# Altium schematic symbol library RGA101M1HBK-0811G.SchLib: 1 symbol
Pins are listed as number, name and electrical type; pins without a type are passive.

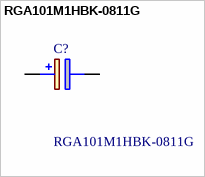
[diagram p0: symbol RGA101M1HBK-0811G]

## RGA101M1HBK-0811G
designator C?
Aluminum Electrolytic Capacitors - Radial Leaded 50V 100uF 105C 8x11.5mm; Manufacturer_Name: Lelon; Geometry.Height: 13mm; Manufacturer_Part_Number: RGA101M1HBK-0811G; Mouser Part Number: 140-RGA101M1HBK0811G; Mouser Price/Stock: https://www.mouser.co.uk/ProductDetail/Lelon/RGA101M1HBK-0811G?qs=pNDdEcSXiOBNivHdElCSJA%3D%3D; Arrow Part Number: RGA101M1HBK-0811G; Arrow Price/Stock: https://www.arrow.com/en/products/rga101m1hbk-0811g/lelon-electronics; Datasheet Link: https://www.arrow.com/en/products/rga101m1hbk-0811g/lelon-electronics
footprint CAPPRD350W60D825H1300
pins: 1 +, 2 -